# Altium schematic symbol library 2174507-2.SchLib: 1 symbol
Pins are listed as number, name and electrical type; pins without a type are passive.

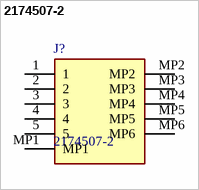
[diagram p0: symbol 2174507-2]

## 2174507-2
designator J?
Body Features: Shell Plating Material Reflowed Tin over Nickel | Offset 0 MM | Connector Profile Micro | Shell Plating Finish Bright | Configuration Features: Number of Ports 1 | Number of Positions 5 | Contact Features: Contact Mating Area Plating Material Thickness 29.52 MICIN | Contact Mating Area Plating Material Thickness .76 MICM | Contact Current Rating (Max) 1.8 AMP | Contact Mating Area Plating Material Gold | Dimensions: PCB Thickness (Recommended) .8  1. MM | PCB Thickness (Recommended) .031; Manufacturer_Name: TE Connectivity; Geometry.Height: 2.86mm; Mouser Part Number: 571-2174507-2; Mouser Price/Stock: https://www.mouser.co.uk/ProductDetail/TE-Connectivity/2174507-2?qs=kAqyOuzYGe%252BUWCFD1qNBLQ%3D%3D; Manufacturer_Part_Number: 2174507-2; Datasheet Link: https://www.te.com/commerce/DocumentDelivery/DDEController?Action=srchrtrv&DocNm=5-1773464-3&DocType=Data%20Sheet&DocLang=English&PartCntxt=2174507-2&DocFormat=pdf
footprint 21745072
pins: 1, 2, 3, 4, 5, MP1, MP2, MP3, MP4, MP5, MP6